# Altium footprint library LVDS_Board.PcbLib: 12 footprints
Each footprint in its own frame and in the unit in brackets; x right, y up, seen from the top. Pads: shape width x height; smd on the part's side, far side on the other; paste and mask are expansions set on the pad; w line width, h text height; cw(c..) or ccw(c..) is an arc to the next point about the centre after c.
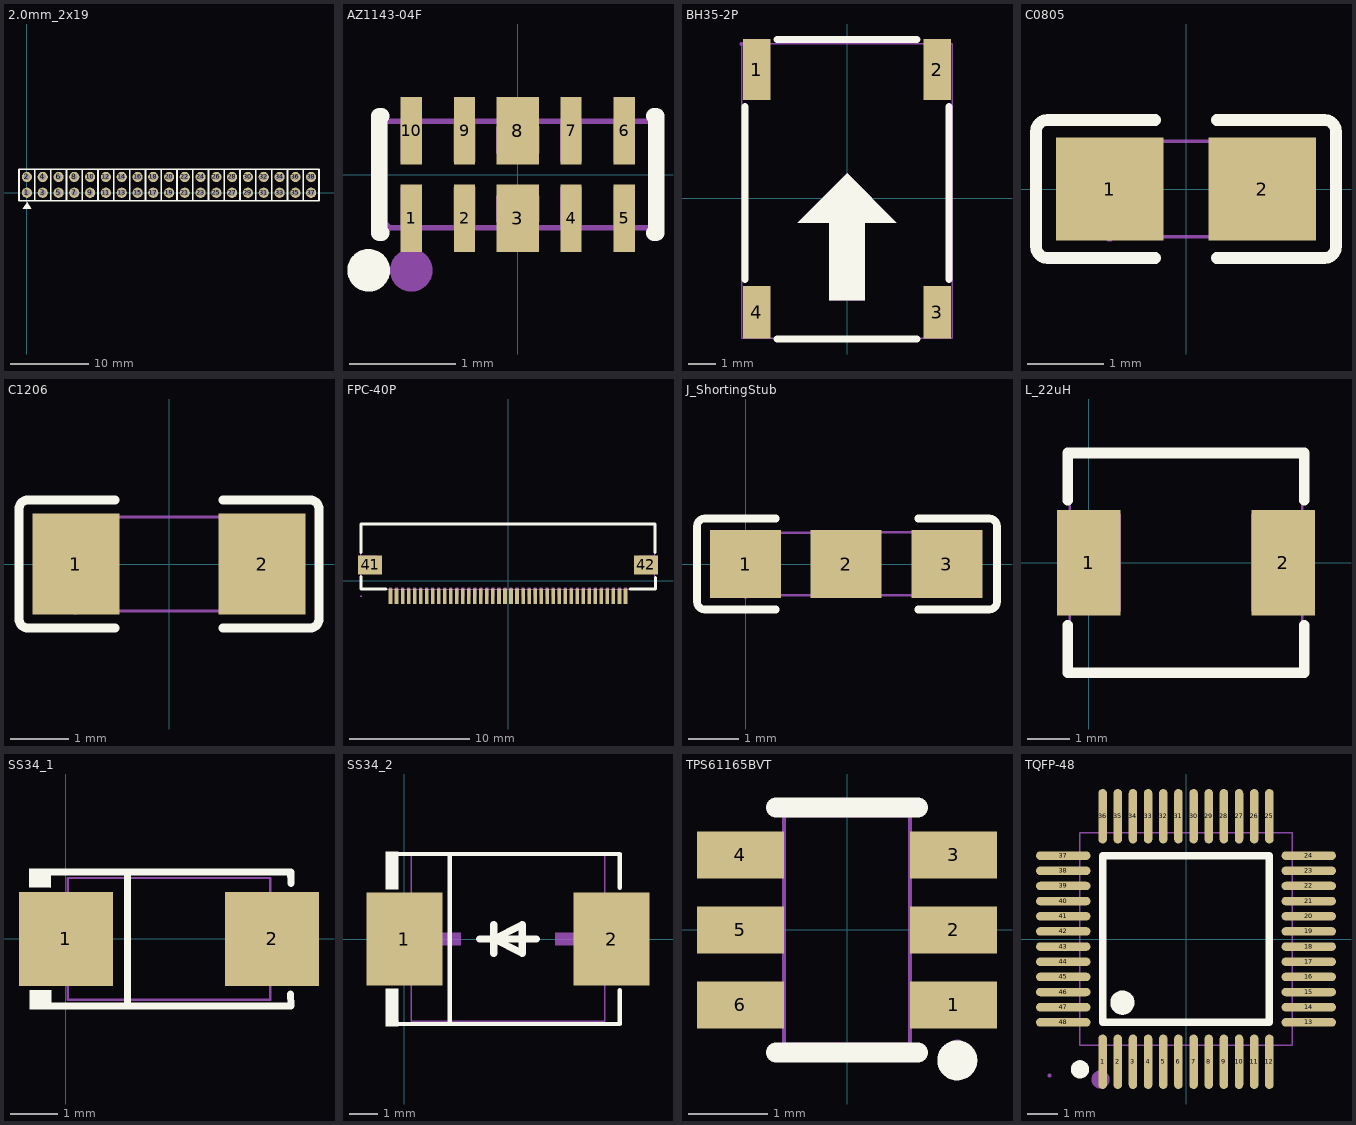
[diagram p0: the footprints below, top view; thin cyan lines are the x and y axes]

## 2.0mm_2x19 [mm]
pads (38):
  round 1.3 hole 0.8: 1(0,0) 2(0,2) 3(2.007,0) 4(2.007,2) 5(4.013,0) 6(4.013,2) 7(5.994,0) 8(5.994,2) 9(8.001,0) 10(8.001,2) 11(10.008,0) 12(10.008,2) 13(12.014,0) 14(12.014,2) 15(14.021,0) 16(14.021,2) 17(16.002,0) 18(16.002,2) 19(18.009,0) 20(18.009,2) 21(19.99,0) 22(19.99,2) 23(21.996,0) 24(21.996,2) 25(24.003,0) 26(24.003,2) 27(25.984,0) 28(25.984,2) 29(27.991,0) 30(27.991,2) 31(29.997,0) 32(29.997,2) 33(32.004,0) 34(32.004,2) 35(34.011,0) 36(34.011,2) 37(35.992,0) 38(35.992,2)
Top Overlay:
  region: -0.514,-2.045 0.016,-1.195 0.536,-2.045
  lines w0.203: 1,-1 -1,-1 -1,3 1,3 ; 3.007,-1 1.007,-1 1.007,3 3.007,3 ; 3.013,-1 5.013,-1 5.013,3 3.013,3 ; 3.032,-1 3.032,3 ; 4.994,-1 6.994,-1 ; 4.994,3 6.994,3 ; 7.001,-1 9.001,-1 9.001,3 7.001,3 ; 7.02,-1 7.02,3 ; 9.008,-1 11.008,-1 ; 9.008,3 11.008,3 ; 13.014,-1 11.014,-1 11.014,3 13.014,3 ; 13.021,-1 15.021,-1 15.021,3 13.021,3 ; 13.04,-1 13.04,3 ; 15.002,-1 17.002,-1 ; 15.002,3 17.002,3 ; 17.009,-1 19.009,-1 19.009,3 17.009,3 ; 17.027,-1 17.027,3 ; 18.99,-1 20.99,-1 20.99,3 18.99,3 ; 20.996,-1 22.996,-1 22.996,3 20.996,3 ; 23.003,-1 25.003,-1 25.003,3 23.003,3 ; 24.984,-1 26.984,-1 26.984,3 24.984,3 ; 26.991,-1 28.991,-1 28.991,3 26.991,3 ; 28.997,-1 30.997,-1 30.997,3 28.997,3 ; 31.004,-1 33.004,-1 33.004,3 31.004,3 ; 33.011,-1 35.011,-1 35.011,3 33.011,3 ; 34.992,-1 36.992,-1 36.992,3 34.992,3
3D body "Headerx2x19.STEP": height 0.5, standoff -6.2, extent -1,-1 37,3

## AZ1143-04F [mm] "ESD 保护阵列"
pads (10):
  rect 0.2x0.633 smd: 1(-1,-0.411) 2(-0.5,-0.411) 4(0.5,-0.411) 5(1,-0.411) 6(1,0.411) 7(0.5,0.411) 9(-0.5,0.411) 10(-1,0.411)
  rect 0.4x0.633 smd: 3(0,-0.411) 8(0,0.411)
Top Overlay:
  circle w0.2: c-1.4,-0.9 r0.1
  lines w0.152: -1.28,-0.55 -1.3,-0.55 -1.3,0.55 -1.28,0.55 ; 1.28,-0.55 1.3,-0.55 1.3,0.55 1.28,0.55
Mechanical 6:
  circle w0.2: c-1,-0.9 r0.1
Mechanical 15:
  region: -0.2,-0.45 0.2,-0.45 0.2,-0.2 0.1,-0.2 0.1,-0.1 -0.1,-0.1 -0.1,-0.2 -0.2,-0.2
  region: 0.2,0.45 0.2,0.2 -0.2,0.2 -0.2,0.45
  region: 1.1,0.5 1.1,0.12 0.9,0.12 0.9,0.5
  region: 1.1,-0.5 1.1,-0.12 0.9,-0.12 0.9,-0.5
  region: 0.6,0.5 0.6,0.12 0.4,0.12 0.4,0.5
  region: 0.6,-0.5 0.6,-0.12 0.4,-0.12 0.4,-0.5
  region: -0.4,0.5 -0.4,0.12 -0.6,0.12 -0.6,0.5
  region: -0.4,-0.5 -0.4,-0.12 -0.6,-0.12 -0.6,-0.5
  region: -0.9,0.5 -0.9,0.12 -1.1,0.12 -1.1,0.5
  region: -0.9,-0.5 -0.9,-0.12 -1.1,-0.12 -1.1,-0.5
  region: -1.19,-0.5 -1.19,-0.476 -1.225,-0.441 -1.274,-0.441 -1.309,-0.476 -1.31,-0.5 -1.309,-0.525 -1.274,-0.559 -1.225,-0.559 -1.19,-0.525 -1.19,-0.5
  lines w0.051: -1.25,-0.5 1.25,-0.5 1.25,0.5 -1.25,0.5 -1.25,-0.5

## BH35-2P [mm]
pads (4):
  rect 1x2.2 smd paste+0 mask+0.05: 1(-3.25,4.629) 2(3.25,4.629)
  rect 1x1.9 smd paste+0 mask+0.05: 3(3.25,-4.121) 4(-3.25,-4.121)
Top Overlay:
  region: 0.635,-3.683 -0.635,-3.683 -0.635,-0.889 -1.778,-0.889 0,0.889 1.778,-0.889 0.635,-0.889
  lines w0.254: -3.683,-2.94 -3.683,3.298 ; -2.519,-5.08 2.519,-5.08 ; -2.519,5.715 2.519,5.715 ; 3.683,-2.94 3.683,3.298
Mechanical 6:
  region: 0.635,-3.683 -0.635,-3.683 -0.635,-0.889 -1.778,-0.889 0,0.889 1.778,-0.889 0.635,-0.889
Mechanical 15:
  region: -3.74,5.554 -3.74,5.579 -3.775,5.614 -3.825,5.614 -3.86,5.579 -3.86,5.554 -3.86,5.529 -3.825,5.494 -3.775,5.494 -3.74,5.529 -3.74,5.554
  region: -3.5,5.554 -3,5.554 -3,4.054 -3.5,4.054
  region: 3,5.554 3.5,5.554 3.5,4.054 3,4.054
  region: 3.15,-3.846 3.35,-3.846 3.35,-5.046 3.15,-5.046
  region: -3.35,-3.846 -3.15,-3.846 -3.15,-5.046 -3.35,-5.046
  lines w0.051: -3.8,-5.046 3.8,-5.046 3.8,5.554 -3.8,5.554 -3.8,-5.046

## C0805 [mm]
pads (2):
  rect 1.41x1.35 smd paste-100 mask+0.051: 1(-1,0) 2(1,0)
Top Overlay:
  lines w0.152: -0.401,-0.904 -1.811,-0.904 cw(c-1.811,-0.751) -1.964,-0.751 -1.964,0.751 cw(c-1.811,0.751) -1.811,0.904 -0.401,0.904 ; 0.401,-0.904 1.811,-0.904 ccw(c1.811,-0.751) 1.964,-0.751 1.964,0.751 ccw(c1.811,0.751) 1.811,0.904 0.401,0.904
Top Paste:
  region: 1.705,0.64 1.705,-0.64 1.655,-0.69 0.505,-0.69 0.455,-0.64 0.45,-0.23 0.9,-0.23 0.9,0.22 0.46,0.22 0.455,0.64 0.505,0.69 1.655,0.69
  region: -1.705,-0.64 -1.705,0.64 -1.655,0.69 -0.505,0.69 -0.455,0.64 -0.45,0.23 -0.9,0.23 -0.9,-0.22 -0.46,-0.22 -0.455,-0.64 -0.505,-0.69 -1.655,-0.69
Mechanical 15:
  region: 1,0.625 1,-0.625 0.5,-0.625 0.5,0.625
  region: -1,-0.625 -1,0.625 -0.5,0.625 -0.5,-0.625
  region: -0.94,-0.625 -0.941,-0.601 -0.976,-0.568 -1.024,-0.568 -1.059,-0.601 -1.06,-0.625 -1.059,-0.649 -1.024,-0.683 -0.976,-0.683 -0.941,-0.649 -0.94,-0.625
  lines w0.051: -1,-0.625 1,-0.625 1,0.625 -1,0.625 -1,-0.625

## C1206 [mm]
pads (2):
  rect 1.485x1.728 smd paste-100 mask+0.051: 1(-1.593,0) 2(1.593,0)
Top Overlay:
  lines w0.152: -0.926,-1.093 -2.411,-1.093 cw(c-2.411,-0.94) -2.564,-0.94 -2.564,0.94 cw(c-2.411,0.94) -2.411,1.093 -0.926,1.093 ; 0.926,-1.093 2.411,-1.093 ccw(c2.411,-0.94) 2.564,-0.94 2.564,0.94 ccw(c2.411,0.94) 2.411,1.093 0.926,1.093
Top Paste:
  region: 0.85,-0.764 0.85,-0.394 0.95,-0.294 1.255,-0.294 1.355,-0.194 1.355,0.194 1.255,0.294 0.95,0.294 0.85,0.394 0.85,0.764 0.95,0.864 2.235,0.864 2.335,0.764 2.335,-0.764 2.235,-0.864 0.95,-0.864
  region: -0.85,-0.764 -0.85,-0.394 -0.95,-0.294 -1.255,-0.294 -1.355,-0.194 -1.355,0.194 -1.255,0.294 -0.95,0.294 -0.85,0.394 -0.85,0.764 -0.95,0.864 -2.235,0.864 -2.335,0.764 -2.335,-0.764 -2.235,-0.864 -0.95,-0.864
Mechanical 15:
  region: -1.54,-0.8 -1.541,-0.776 -1.576,-0.742 -1.624,-0.742 -1.659,-0.776 -1.66,-0.8 -1.659,-0.824 -1.624,-0.858 -1.576,-0.858 -1.541,-0.824 -1.54,-0.8
  region: -1.6,-0.8 -1.6,0.8 -1.1,0.8 -1.1,-0.8
  region: 1.6,-0.8 1.6,0.8 1.1,0.8 1.1,-0.8
  lines w0.051: -1.6,-0.8 -1.6,0.8 1.6,0.8 1.6,-0.8 -1.6,-0.8

## FPC-40P [mm]
pads (42):
  rect 0.3x1.3 smd paste+0 mask+0.05: 1(9.75,-1.3) 2(9.25,-1.3) 3(8.75,-1.3) 4(8.25,-1.3) 5(7.75,-1.3) 6(7.25,-1.3) 7(6.75,-1.3) 8(6.25,-1.3) 9(5.75,-1.3) 10(5.25,-1.3) 11(4.75,-1.3) 12(4.25,-1.3) 13(3.75,-1.3) 14(3.25,-1.3) 15(2.75,-1.3) 16(2.25,-1.3) 17(1.75,-1.3) 18(1.25,-1.3) 19(0.75,-1.3) 20(0.25,-1.3) 21(-0.25,-1.3) 22(-0.75,-1.3) 23(-1.25,-1.3) 24(-1.75,-1.3) 25(-2.25,-1.3) 26(-2.75,-1.3) 27(-3.25,-1.3) 28(-3.75,-1.3) 29(-4.25,-1.3) 30(-4.75,-1.3) 31(-5.25,-1.3) 32(-5.75,-1.3) 33(-6.25,-1.3) 34(-6.75,-1.3) 35(-7.25,-1.3) 36(-7.75,-1.3) 37(-8.25,-1.3) 38(-8.75,-1.3) 39(-9.25,-1.3) 40(-9.75,-1.3)
  rect 2x1.6 smd: 41(-11.45,1.3) 42(11.45,1.3)
Top Overlay:
  lines w0.254: -12.2,0.35 -12.2,-0.7 -10.126,-0.7 ; -12.2,2.331 -12.2,4.7 12.2,4.7 12.2,2.331 ; 10.126,-0.7 12.25,-0.7 12.25,0.269
Mechanical 15:
  drawing of 49 lines, arcs and shapes, not listed

## J_ShortingStub [mm]
pads (3):
  rect 1.41x1.35 smd paste-100 mask+0.051: 1(0,0) 2(2,0) 3(4,0)
Top Overlay:
  lines w0.152: 0.599,-0.904 -0.811,-0.904 cw(c-0.811,-0.751) -0.964,-0.751 -0.964,0.751 cw(c-0.811,0.751) -0.811,0.904 0.599,0.904 ; 3.433,-0.904 4.843,-0.904 ccw(c4.843,-0.751) 4.996,-0.751 4.996,0.751 ccw(c4.843,0.751) 4.843,0.904 3.433,0.904
Top Paste:
  region: 4.642,0.64 4.642,-0.64 4.592,-0.69 3.442,-0.69 3.392,-0.64 3.387,-0.23 3.837,-0.23 3.837,0.22 3.397,0.22 3.392,0.64 3.442,0.69 4.592,0.69
  region: 2.705,0.64 2.705,-0.64 2.655,-0.69 1.505,-0.69 1.455,-0.64 1.45,-0.23 1.9,-0.23 1.9,0.22 1.46,0.22 1.455,0.64 1.505,0.69 2.655,0.69
  region: -0.705,-0.64 -0.705,0.64 -0.655,0.69 0.495,0.69 0.545,0.64 0.55,0.23 0.1,0.23 0.1,-0.22 0.54,-0.22 0.545,-0.64 0.495,-0.69 -0.655,-0.69
Mechanical 15:
  region: 3.937,0.625 3.937,-0.625 3.437,-0.625 3.437,0.625
  region: 2,0.625 2,-0.625 1.5,-0.625 1.5,0.625
  region: 0,-0.625 0,0.625 0.5,0.625 0.5,-0.625
  region: 0.06,-0.625 0.059,-0.601 0.024,-0.568 -0.024,-0.568 -0.059,-0.601 -0.06,-0.625 -0.059,-0.649 -0.024,-0.683 0.024,-0.683 0.059,-0.649 0.06,-0.625
  lines w0.051: 1.999,-0.623 3.999,-0.623 ; 1.999,0.626 3.999,0.626 ; 3.937,-0.625 3.937,0.625 ; 0,-0.625 2,-0.625 2,0.625 0,0.625 0,-0.625

## L_22uH [mm]
pads (2):
  rect 1.5x2.5 smd: 1(0,0) 2(4.6,0)
Top Overlay:
  lines w0.254: -0.5,-1.481 -0.5,-2.6 5.1,-2.6 5.1,-1.481 ; -0.5,1.481 -0.5,2.6 5.1,2.6 5.1,1.481
Mechanical 15:
  region: -0.39,-2.6 -0.391,-2.576 -0.426,-2.542 -0.474,-2.542 -0.509,-2.576 -0.51,-2.6 -0.509,-2.624 -0.474,-2.658 -0.426,-2.658 -0.391,-2.624 -0.39,-2.6
  region: 5.05,1.15 5.05,-1.15 3.85,-1.15 3.85,1.15
  region: 0.75,1.15 0.75,-1.15 -0.45,-1.15 -0.45,1.15
  lines w0.051: -0.45,-2.6 -0.45,2.6 5.05,2.6 5.05,-2.6 -0.45,-2.6

## SS34_1 [mm]
pads (2):
  rect 2x2 smd: 1(0,0) 2(4.4,0)
Top Overlay:
  region: -0.32,1.502 -0.321,1.096 -0.781,1.1 -0.777,1.502
  region: -0.312,-1.096 -0.313,-1.503 -0.773,-1.498 -0.769,-1.096
  lines w0.152: -0.396,-1.426 4.796,-1.426 ; -0.396,1.426 4.796,1.426 4.803,1.187 ; 1.316,-1.426 1.316,1.426 ; 4.793,-1.176 4.8,-1.415
Mechanical 6:
  region: -0.118,-0.101 -0.118,0.101 0.692,0.101 0.692,-0.101
  region: 4.49,-0.09 4.49,0.112 3.68,0.112 3.68,-0.09
  region: 4.214,-0.675 4.214,0.675 4.011,0.675 4.011,-0.675
Mechanical 15:
  region: -0.345,-1.3 -0.346,-1.275 -0.381,-1.241 -0.43,-1.241 -0.465,-1.275 -0.465,-1.3 -0.465,-1.324 -0.43,-1.359 -0.381,-1.359 -0.346,-1.324
  region: 4.805,0.725 4.805,-0.725 3.68,-0.725 3.68,0.725
  region: 0.72,0.725 0.72,-0.725 -0.405,-0.725 -0.405,0.725
  lines w0.051: 0.04,-1.3 0.04,1.3 4.36,1.3 4.36,-1.3 0.04,-1.3

## SS34_2 [mm]
pads (2):
  rect 2.7x3.3 smd: 1(0,0) 2(7.373,0)
Top Overlay:
  region: -0.214,3.102 -0.214,1.772 -0.671,1.772 -0.671,3.102
  region: -0.214,-3.102 -0.214,-1.772 -0.671,-1.772 -0.671,-3.102
  lines w0.152: -0.29,-3.026 7.662,-3.026 7.662,-1.823 ; -0.29,3.026 7.662,3.026 7.662,1.823 ; 1.617,-3.026 1.617,3.026
  lines w0.254: 2.67,0 4.702,0 ; 3.178,0.508 3.178,-0.508 3.178,0 ; 3.178,0 4.194,-0.508 4.194,0.508 3.178,0
Mechanical 6:
  region: 0.229,-0.221 0.229,0.221 1.999,0.221 1.999,-0.221
  region: 7.144,-0.221 7.144,0.221 5.374,0.221 5.374,-0.221
  region: 6.48,-1.475 6.48,1.475 6.038,1.475 6.038,-1.475
Mechanical 15:
  region: -0.204,-2.95 -0.204,-2.926 -0.239,-2.892 -0.288,-2.892 -0.323,-2.926 -0.324,-2.95 -0.323,-2.974 -0.288,-3.008 -0.239,-3.008 -0.204,-2.974
  region: -0.264,-1.5 -0.264,1.5 0.986,1.5 0.986,-1.5
  region: 7.636,-1.5 7.636,1.5 6.386,1.5 6.386,-1.5
  lines w0.051: 0.236,-2.921 0.236,2.979 7.136,2.979 7.136,-2.921 0.236,-2.921

## TPS61165BVT [mm]
pads (6):
  rect 1.1x0.6 smd paste+0 mask+0.051: 1(1.35,-0.95) 2(1.35,0) 3(1.35,0.95) 4(-1.35,0.95) 5(-1.35,0) 6(-1.35,-0.95)
Top Overlay:
  circle w0.254: c1.397,-1.651 r0.127
  lines w0.254: -0.9,-1.55 0.9,-1.55 ; -0.9,1.55 0.9,1.55
Mechanical 6:
  circle w0.2: c1.4,-0.95 r0.1
Mechanical 15:
  region: 1.46,-1.45 1.46,-1.425 1.425,-1.39 1.375,-1.39 1.34,-1.425 1.34,-1.45 1.34,-1.475 1.375,-1.51 1.425,-1.51 1.46,-1.475 1.46,-1.45
  region: -0.925,-1.165 -0.925,-0.735 -1.4,-0.735 -1.4,-1.165
  region: -0.925,-0.215 -0.925,0.215 -1.4,0.215 -1.4,-0.215
  region: -0.925,0.735 -0.925,1.165 -1.4,1.165 -1.4,0.735
  region: -0.935,0.735 -0.935,1.165 -0.79,1.165 -0.79,0.735
  region: 0.925,0.735 0.925,1.165 1.4,1.165 1.4,0.735
  region: 0.925,-0.215 0.925,0.215 1.4,0.215 1.4,-0.215
  region: 0.925,-1.165 0.925,-0.735 1.4,-0.735 1.4,-1.165
  region: -0.935,-0.215 -0.935,0.215 -0.79,0.215 -0.79,-0.215
  region: -0.935,-1.165 -0.935,-0.735 -0.79,-0.735 -0.79,-1.165
  region: 0.935,-0.735 0.935,-1.165 0.79,-1.165 0.79,-0.735
  region: 0.935,0.215 0.935,-0.215 0.79,-0.215 0.79,0.215
  region: 0.935,1.165 0.935,0.735 0.79,0.735 0.79,1.165
  lines w0.051: -0.8,-1.45 -0.8,1.45 0.8,1.45 0.8,-1.45 -0.8,-1.45

## TQFP-48 [mm]
pads (48):
  oval 0.28x1.8 smd: 1(-2.75,-4.05) 2(-2.25,-4.05) 3(-1.75,-4.05) 4(-1.25,-4.05) 5(-0.75,-4.05) 6(-0.25,-4.05) 7(0.25,-4.05) 8(0.75,-4.05) 9(1.25,-4.05) 10(1.75,-4.05) 11(2.25,-4.05) 12(2.75,-4.05) 25(2.75,4.05) 26(2.25,4.05) 27(1.75,4.05) 28(1.25,4.05) 29(0.75,4.05) 30(0.25,4.05) 31(-0.25,4.05) 32(-0.75,4.05) 33(-1.25,4.05) 34(-1.75,4.05) 35(-2.25,4.05) 36(-2.75,4.05)
  oval 1.8x0.28 smd: 13(4.05,-2.75) 14(4.05,-2.25) 15(4.05,-1.75) 16(4.05,-1.25) 17(4.05,-0.75) 18(4.05,-0.25) 19(4.05,0.25) 20(4.05,0.75) 21(4.05,1.25) 22(4.05,1.75) 23(4.05,2.25) 24(4.05,2.75) 37(-4.05,2.75) 38(-4.05,2.25) 39(-4.05,1.75) 40(-4.05,1.25) 41(-4.05,0.75) 42(-4.05,0.25) 43(-4.05,-0.25) 44(-4.05,-0.75) 45(-4.05,-1.25) 46(-4.05,-1.75) 47(-4.05,-2.25) 48(-4.05,-2.75)
Top Overlay:
  lines w0.254: -2.75,-2.75 2.75,-2.75 2.75,2.75 -2.75,2.75 -2.75,-2.75
  lines w0.3: -3.5,-4.15 ccw(c-3.499,-4.3) -3.499,-4.45 ccw(c-3.499,-4.3) -3.498,-4.15
  lines w0.4: -2.101,-1.9 ccw(c-2.098,-2.1) -2.098,-2.3 ccw(c-2.098,-2.1) -2.095,-1.9
Mechanical 6:
  circle w0.3: c-2.822,-4.638 r0.15
Mechanical 15:
  drawing of 101 lines, arcs and shapes, not listed